# EAGLE library part EPM7128-P100 (library altera)
EPM70128 MAX 7000 family
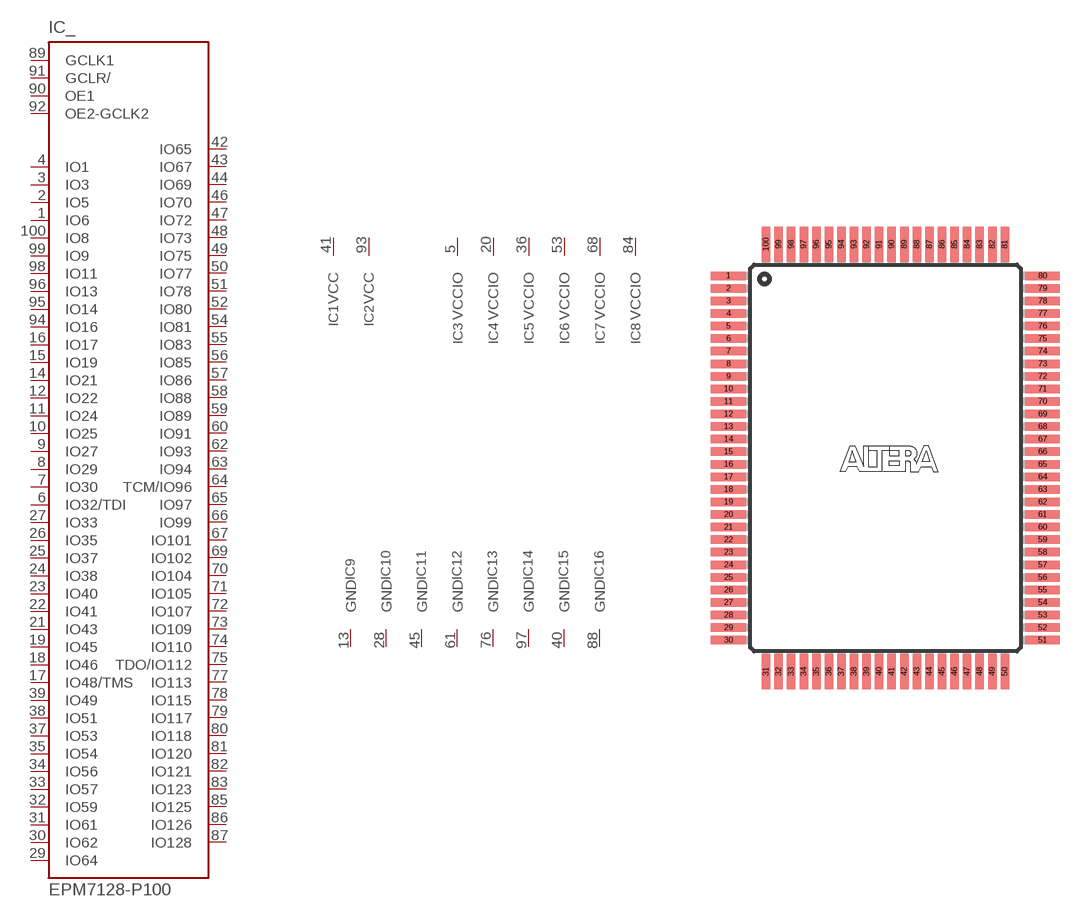
[diagram p12: symbol with the pads of PQFP100; footprint PQFP100]

Designator prefix IC; gates _=7128P100 1=VCC 2=VCC 3=VCCIO 4=VCCIO 5=VCCIO 6=VCCIO 7=VCCIO 8=VCCIO 9=GND 10=GND 11=GND 12=GND 13=GND 14=GND 15=GND 16=GND

## EPM7128-P100  [PQFP100]
1  _:IO6
2  _:IO5
3  _:IO3
4  _:IO1
5  3:VCCIO  pwr
6  _:IO32/TDI
7  _:IO30
8  _:IO29
9  _:IO27
10  _:IO25
11  _:IO24
12  _:IO22
13  9:GND  pwr
14  _:IO21
15  _:IO19
16  _:IO17
17  _:IO48/TMS
18  _:IO46
19  _:IO45
20  4:VCCIO  pwr
21  _:IO43
22  _:IO41
23  _:IO40
24  _:IO38
25  _:IO37
26  _:IO35
27  _:IO33
28  10:GND  pwr
29  _:IO64
30  _:IO62
31  _:IO61
32  _:IO59
33  _:IO57
34  _:IO56
35  _:IO54
36  5:VCCIO  pwr
37  _:IO53
38  _:IO51
39  _:IO49
40  15:GND  pwr
41  1:VCC  pwr
42  _:IO65
43  _:IO67
44  _:IO69
45  11:GND  pwr
46  _:IO70
47  _:IO72
48  _:IO73
49  _:IO75
50  _:IO77
51  _:IO78
52  _:IO80
53  6:VCCIO  pwr
54  _:IO81
55  _:IO83
56  _:IO85
57  _:IO86
58  _:IO88
59  _:IO89
60  _:IO91
61  12:GND  pwr
62  _:IO93
63  _:IO94
64  _:TCM/IO96
65  _:IO97
66  _:IO99
67  _:IO101
68  7:VCCIO  pwr
69  _:IO102
70  _:IO104
71  _:IO105
72  _:IO107
73  _:IO109
74  _:IO110
75  _:TDO/IO112
76  13:GND  pwr
77  _:IO113
78  _:IO115
79  _:IO117
80  _:IO118
81  _:IO120
82  _:IO121
83  _:IO123
84  8:VCCIO  pwr
85  _:IO125
86  _:IO126
87  _:IO128
88  16:GND  pwr
89  _:GCLK1  in
90  _:OE1  in
91  _:GCLR/  in
92  _:OE2-GCLK2  in
93  2:VCC  pwr
94  _:IO16
95  _:IO14
96  _:IO13
97  14:GND  pwr
98  _:IO11
99  _:IO9
100  _:IO8

## Footprint PQFP100 (pad centres in mm)
Plastic Quad Flat Pack
smd 1.8 x 0.44: 1 -8.125,9.425; 2 -8.125,8.775; 3 -8.125,8.125; 4 -8.125,7.475; 5 -8.125,6.825; 6 -8.125,6.175; 7 -8.125,5.525; 8 -8.125,4.875; 9 -8.125,4.225; 10 -8.125,3.575; 11 -8.125,2.925; 12 -8.125,2.275; 13 -8.125,1.625; 14 -8.125,0.975; 15 -8.125,0.325; 16 -8.125,-0.325; 17 -8.125,-0.975; 18 -8.125,-1.625; 19 -8.125,-2.275; 20 -8.125,-2.925; 21 -8.125,-3.575; 22 -8.125,-4.225; 23 -8.125,-4.875; 24 -8.125,-5.525; 25 -8.125,-6.175; 26 -8.125,-6.825; 27 -8.125,-7.475; 28 -8.125,-8.125; 29 -8.125,-8.775; 30 -8.125,-9.425; 51 8.125,-9.425; 52 8.125,-8.775; 53 8.125,-8.125; 54 8.125,-7.475; 55 8.125,-6.825; 56 8.125,-6.175; 57 8.125,-5.525; 58 8.125,-4.875; 59 8.125,-4.225; 60 8.125,-3.575; 61 8.125,-2.925; 62 8.125,-2.275; 63 8.125,-1.625; 64 8.125,-0.975; 65 8.125,-0.325; 66 8.125,0.325; 67 8.125,0.975; 68 8.125,1.625; 69 8.125,2.275; 70 8.125,2.925; 71 8.125,3.575; 72 8.125,4.225; 73 8.125,4.875; 74 8.125,5.525; 75 8.125,6.175; 76 8.125,6.825; 77 8.125,7.475; 78 8.125,8.125; 79 8.125,8.775; 80 8.125,9.425
smd 0.44 x 1.8: 31 -6.175,-11.05; 32 -5.525,-11.05; 33 -4.875,-11.05; 34 -4.225,-11.05; 35 -3.575,-11.05; 36 -2.925,-11.05; 37 -2.275,-11.05; 38 -1.625,-11.05; 39 -0.975,-11.05; 40 -0.325,-11.05; 41 0.325,-11.05; 42 0.975,-11.05; 43 1.625,-11.05; 44 2.275,-11.05; 45 2.925,-11.05; 46 3.575,-11.05; 47 4.225,-11.05; 48 4.875,-11.05; 49 5.525,-11.05; 50 6.175,-11.05; 81 6.175,11.05; 82 5.525,11.05; 83 4.875,11.05; 84 4.225,11.05; 85 3.575,11.05; 86 2.925,11.05; 87 2.275,11.05; 88 1.625,11.05; 89 0.975,11.05; 90 0.325,11.05; 91 -0.325,11.05; 92 -0.975,11.05; 93 -1.625,11.05; 94 -2.275,11.05; 95 -2.925,11.05; 96 -3.575,11.05; 97 -4.225,11.05; 98 -4.875,11.05; 99 -5.525,11.05; 100 -6.175,11.05